# EAGLE library part RHA1016 (library harrison)
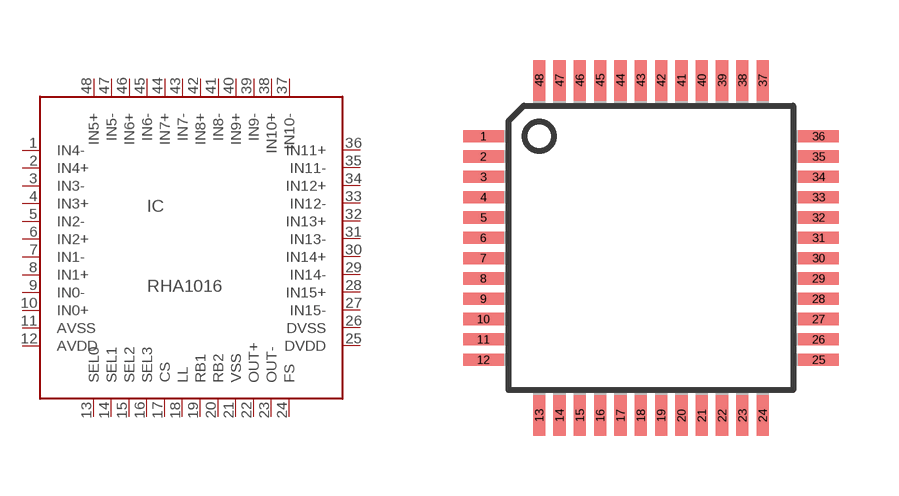
[diagram p19: symbol with the pads of TQFP-48; footprint TQFP-48]

Designator prefix IC

## RHA1016QFP  [TQFP-48]
1  IN4-
2  IN4+
3  IN3-
4  IN3+
5  IN2-
6  IN2+
7  IN1-
8  IN1+
9  IN0-
10  IN0+
11  AVSS
12  AVDD
13  SEL0
14  SEL1
15  SEL2
16  SEL3
17  CS
18  LL
19  RB1
20  RB2
21  VSS
22  OUT+
23  OUT-
24  FS
25  DVDD
26  DVSS
27  IN15-
28  IN15+
29  IN14-
30  IN14+
31  IN13-
32  IN13+
33  IN12-
34  IN12+
35  IN11-
36  IN11+
37  IN10-
38  IN10+
39  IN9-
40  IN9+
41  IN8-
42  IN8+
43  IN7-
44  IN7+
45  IN6-
46  IN6+
47  IN5-
48  IN5+

## Footprint TQFP-48 (pad centres in mm)
smd 1.016 x 0.305: 1 -4.191,2.794; 2 -4.191,2.286; 3 -4.191,1.778; 4 -4.191,1.27; 5 -4.191,0.762; 6 -4.191,0.254; 7 -4.191,-0.254; 8 -4.191,-0.762; 9 -4.191,-1.27; 10 -4.191,-1.778; 11 -4.191,-2.286; 12 -4.191,-2.794; 25 4.191,-2.794; 26 4.191,-2.286; 27 4.191,-1.778; 28 4.191,-1.27; 29 4.191,-0.762; 30 4.191,-0.254; 31 4.191,0.254; 32 4.191,0.762; 33 4.191,1.27; 34 4.191,1.778; 35 4.191,2.286; 36 4.191,2.794
smd 0.305 x 1.016: 13 -2.794,-4.191; 14 -2.286,-4.191; 15 -1.778,-4.191; 16 -1.27,-4.191; 17 -0.762,-4.191; 18 -0.254,-4.191; 19 0.254,-4.191; 20 0.762,-4.191; 21 1.27,-4.191; 22 1.778,-4.191; 23 2.286,-4.191; 24 2.794,-4.191; 37 2.794,4.191; 38 2.286,4.191; 39 1.778,4.191; 40 1.27,4.191; 41 0.762,4.191; 42 0.254,4.191; 43 -0.254,4.191; 44 -0.762,4.191; 45 -1.27,4.191; 46 -1.778,4.191; 47 -2.286,4.191; 48 -2.794,4.191